# Altium footprint library Components - 11.11.25 - 12.07.PcbLib: 1 footprints
Each footprint in its own frame and in the unit in brackets; x right, y up, seen from the top. Pads: shape width x height; smd on the part's side, far side on the other; paste and mask are expansions set on the pad; w line width, h text height; cw(c..) or ccw(c..) is an arc to the next point about the centre after c.
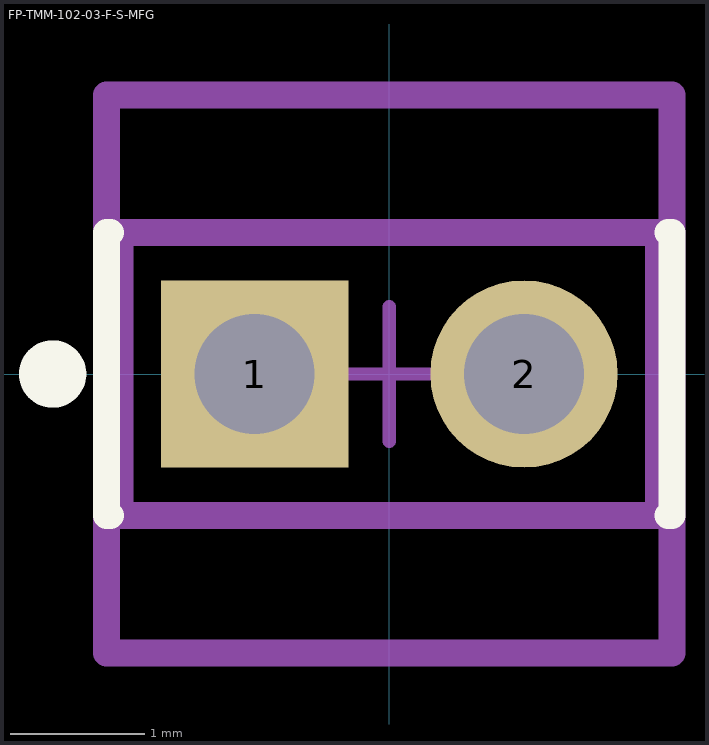
[diagram p0: the footprint, top view; thin cyan lines are the x and y axes]

## FP-TMM-102-03-F-S-MFG [mm]
pads (2):
  rect 1.39x1.39 hole 0.89 paste-2539.97 mask+0: 1(-1,0)
  round 1.39 hole 0.89 paste-2539.97 mask+0: 2(1,0)
Top Overlay:
  circle w0.25: c-2.5,0 r0.125
  lines w0.2: -2.07,-1.05 -2.1,-1.05 -2.1,1.05 -2.07,1.05 ; 2.07,-1.05 2.1,-1.05 2.1,1.05 2.07,1.05
Top Paste:
  region: 1.85,0.85 0.15,0.85 0.15,-0.85 0.615,-0.85 0.64,-0.852 0.687,-0.872 0.723,-0.908 0.743,-0.955 0.745,-0.98 0.745,-1.97 1.255,-1.97 1.255,-0.98 1.257,-0.955 1.277,-0.908 1.313,-0.872 1.36,-0.852 1.385,-0.85 1.85,-0.85
  region: -1.85,-0.85 -0.15,-0.85 -0.15,0.85 -0.615,0.85 -0.64,0.852 -0.687,0.872 -0.723,0.908 -0.743,0.955 -0.745,0.98 -0.745,1.97 -1.255,1.97 -1.255,0.98 -1.257,0.955 -1.277,0.908 -1.313,0.872 -1.36,0.852 -1.385,0.85 -1.85,0.85
Top Assembly:
  lines w0.2: -2.1,-2.07 -2.1,2.07 2.1,2.07 2.1,-2.07 -2.1,-2.07
  text ".Designator" at 0,0.188 h1
Top 3D Body:
  lines w0.2: -2,-1.05 -2,1.05 2,1.05 2,-1.05 -2,-1.05
Top Courtyard:
  lines w0.2: -2.1,-2.07 -2.1,2.07 2.1,2.07 2.1,-2.07 -2.1,-2.07
Top Component Center:
  lines w0.1: -0.5,0 0.5,0 ; 0,-0.5 0,0.5
3D body "Conn_Samtec_TMM-102-03-F-S_eec.STEP": height 0.25, standoff 0, extent -2.1,-2.07 2.1,2.07